# EAGLE library part LS18 (library LS10Series)
LS10 Series Switch Features Eliminates switch bounce Utilizes Adsptive NoBounce technology High level of noise immunity Eliminates < 20 ms noise spikes Low impednce 25 mA totem pole output/channel May be used in 2-position toggle switch On/Off applications General Description The LogiSwitch LS10 Series of High Noise Immunity Debouncer/Noise Filter ICs was designed for trouble-free use in the most severe electrically hostile environments. The LS10 Series of LogiSwitch debouncer/noise filter chips features low-impedance 25 mA totem-pole outputs for each channel. Outputs and inputs are of the same polarity and may be selected for use as active high or active low. The LS10 Series utilizes LogiSwitch’s proprietary NoBounce™ technology resulting in a high level of noise immunity. Noise spikes of less than 20 ms duration are prohibited from starting or terminating a cycle. The input of each channel includes an internal pull-up resistor so the SPST interface requires just one pin (NO or COM) tied to ground and the other to a channel input of the device. All outputs are delayed for a period of 20 ms + bounce time on both activation and release regardless of the bounce duration. LogiSwitch URL: http://www.logiswitch.com/
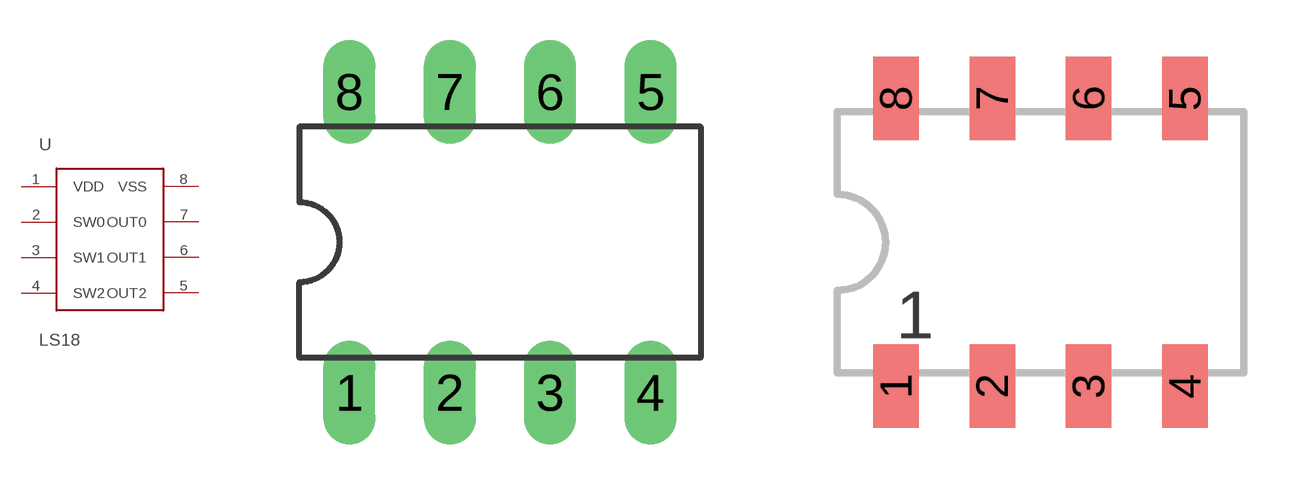
[diagram p0: symbol with the pads of DIL08; footprints DIL08, SO8]

Designator prefix -

## LS18-P  [DIL08]
1  VDD
2  SW0
3  SW1
4  SW2
5  OUT2
6  OUT1
7  OUT0
8  VSS

## LS18-S  [SO8]
Pads as for DIL08

## Footprint DIL08 (pad centres in mm)
Dual In Line Package
drill 0.813 long: 1 -3.81,-3.81; 2 -1.27,-3.81; 3 1.27,-3.81; 4 3.81,-3.81; 5 3.81,3.81; 6 1.27,3.81; 7 -1.27,3.81; 8 -3.81,3.81

## Footprint SO8 (pad centres in mm)
SMD DIL08 dual in line package'
smd 1.2 x 2.2: 1 -3.81,-3.8; 2 -1.27,-3.8; 3 1.27,-3.8; 4 3.81,-3.8; 5 3.81,3.8; 6 1.27,3.8; 7 -1.27,3.8; 8 -3.81,3.8